# EAGLE library part LAN9512 (library we-chip)
Microchip LAN9512 USB Hub + Ethernet Controller
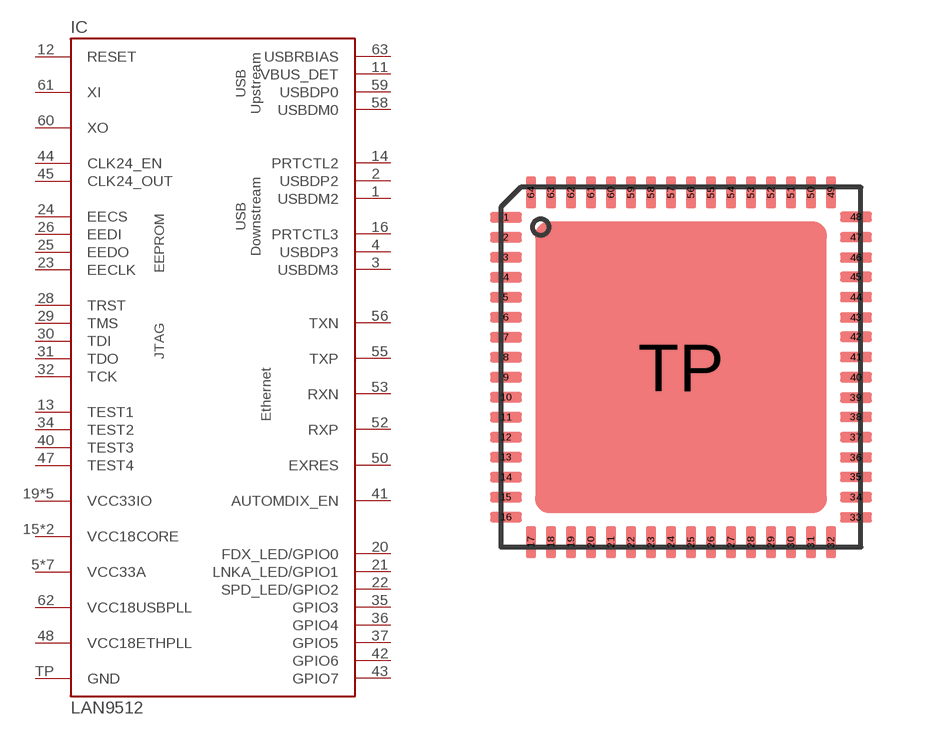
[diagram p27: symbol with the pads of QFN64-PAD; footprint QFN64-PAD]

Designator prefix IC

## LAN9512-JZX  [QFN64-PAD]
1  USBDM2
2  USBDP2
3  USBDM3
4  USBDP3
5  VCC33A  pwr
10  VCC33A  pwr
11  VBUS_DET
12  RESET  in
13  TEST1  in
14  PRTCTL2
15  VCC18CORE  pwr
16  PRTCTL3
19  VCC33IO  pwr
20  FDX_LED/GPIO0
21  LNKA_LED/GPIO1
22  SPD_LED/GPIO2
23  EECLK
24  EECS
25  EEDO
26  EEDI
27  VCC33IO  pwr
28  TRST
29  TMS
30  TDI
31  TDO
32  TCK
33  VCC33IO  pwr
34  TEST2  in
35  GPIO3
36  GPIO4
37  GPIO5
38  VCC18CORE  pwr
39  VCC33IO  pwr
40  TEST3  in
41  AUTOMDIX_EN  in
42  GPIO6
43  GPIO7
44  CLK24_EN  in
45  CLK24_OUT
46  VCC33IO  pwr
47  TEST4  in
48  VCC18ETHPLL  pwr
49  VCC33A  pwr
50  EXRES  pas
51  VCC33A  pwr
52  RXP  pas
53  RXN  pas
54  VCC33A  pwr
55  TXP  pas
56  TXN  pas
57  VCC33A  pwr
58  USBDM0
59  USBDP0
60  XO  pas
61  XI  pas
62  VCC18USBPLL  pwr
63  USBRBIAS  pas
64  VCC33A  pwr
TP  GND  pas

## Footprint QFN64-PAD (pad centres in mm)
smd 0.8 x 0.26: 1 -4.375,3.75; 2 -4.375,3.25; 3 -4.375,2.75; 4 -4.375,2.25; 5 -4.375,1.75; 6 -4.375,1.25; 7 -4.375,0.75; 8 -4.375,0.25; 9 -4.375,-0.25; 10 -4.375,-0.75; 11 -4.375,-1.25; 12 -4.375,-1.75; 13 -4.375,-2.25; 14 -4.375,-2.75; 15 -4.375,-3.25; 16 -4.375,-3.75; 33 4.375,-3.759; 34 4.375,-3.251; 35 4.375,-2.743; 36 4.375,-2.261; 37 4.375,-1.753; 38 4.375,-1.245; 39 4.375,-0.762; 40 4.375,-0.254; 41 4.375,0.254; 42 4.375,0.762; 43 4.375,1.245; 44 4.375,1.753; 45 4.375,2.261; 46 4.375,2.743; 47 4.375,3.251; 48 4.375,3.759
smd 0.26 x 0.8: 17 -3.75,-4.375; 18 -3.25,-4.375; 19 -2.75,-4.375; 20 -2.25,-4.375; 21 -1.75,-4.375; 22 -1.25,-4.375; 23 -0.75,-4.375; 24 -0.25,-4.375; 25 0.25,-4.375; 26 0.75,-4.375; 27 1.25,-4.375; 28 1.75,-4.375; 29 2.25,-4.375; 30 2.75,-4.375; 31 3.25,-4.375; 32 3.75,-4.375; 49 3.75,4.375; 50 3.25,4.375; 51 2.75,4.375; 52 2.25,4.375; 53 1.75,4.375; 54 1.25,4.375; 55 0.75,4.375; 56 0.25,4.375; 57 -0.25,4.375; 58 -0.75,4.375; 59 -1.25,4.375; 60 -1.75,4.375; 61 -2.25,4.375; 62 -2.75,4.375; 63 -3.25,4.375; 64 -3.75,4.375
smd 7.3 x 7.3: TP 0,0